# EAGLE library part USB_CONNECTOR (library mille-feuille)
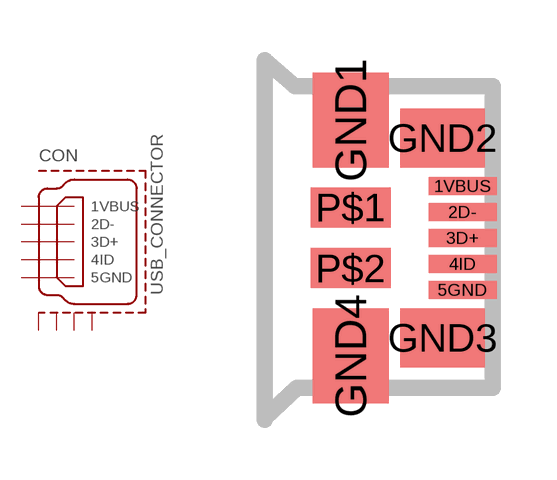
[diagram p26: symbol with the pads of MOLEX_47364-0001; footprint MOLEX_47364-0001]

Designator prefix CON

## USB_CONNECTORMICRO  [MOLEX_47364-0001]
1VBUS  1VBUS  in
2D-  2D-  in
3D+  3D+  in
4ID  4ID  in
5GND  5GND  in
GND1  GND1
GND2  GND2
GND3  GND3
GND4  GND4

## Footprint MOLEX_47364-0001 (pad centres in mm)
smd 1.7 x 0.45: 1VBUS 2.8,1.3; 2D- 2.8,0.65; 3D+ 2.8,0; 4ID 2.8,-0.65; 5GND 2.8,-1.3
smd 1.9 x 2.375: GND1 0,2.95; GND4 0,-2.95
smd 2.1 x 1.475: GND2 2.3,2.5; GND3 2.3,-2.5
smd 2 x 1: P$1 0,0.762; P$2 0,-0.762